# EAGLE library part MCN_V2_FOOTPRINT (library Buckeye Current)
Magic CAN Node v2 footprint This is the footprint you should use for board-to-board interfacing of a Magic CAN Node v2.2+. You will need the following connectors: Connector MCN part Mating part CAN connector Harwin M22-714032 (female) Harwin M22-2020305 (male) Sensor connector 2x Harwin M22-7131042 (female) 2x Harwin M22-2511005 (male) Backpack headers 2x Sullins LPPB101NFFN-RC (female) 2x Sullins GRPB101VWVN-RC (male) The minimum board-to-board clearance is 5.9 mm. You can use a 6mm standoff and it will work OK. -abk, Jan. 2016
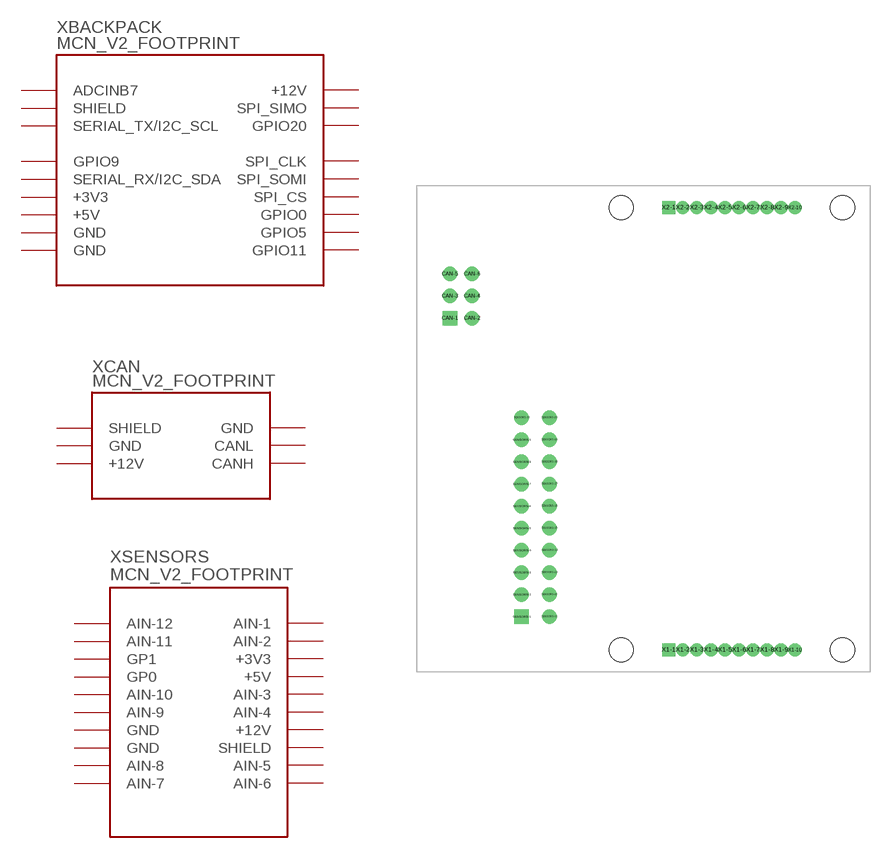
[diagram p1: symbol with the pads of MCN_V2_FOOTPRINT; footprint MCN_V2_FOOTPRINT]

Designator prefix X; gates BACKPACK=MCN_V2_BACKPACK CAN=MCN_V2_CAN SENSORS=MCN_V2_SENSORS

## MCN_V2_FOOTPRINT  [MCN_V2_FOOTPRINT]
CAN-1  CAN:SHIELD
CAN-2  CAN:GND
CAN-3  CAN:GND
CAN-4  CAN:CANL
CAN-5  CAN:+12V
CAN-6  CAN:CANH
SENSORS-1  SENSORS:AIN-7
SENSORS-2  SENSORS:AIN-8
SENSORS-3  SENSORS:GND
SENSORS-4  SENSORS:GND
SENSORS-5  SENSORS:AIN-9
SENSORS-6  SENSORS:AIN-10
SENSORS-7  SENSORS:GP0
SENSORS-8  SENSORS:GP1
SENSORS-9  SENSORS:AIN-11
SENSORS-10  SENSORS:AIN-12
SENSORS-11  SENSORS:AIN-5
SENSORS-12  SENSORS:AIN-6
SENSORS-13  SENSORS:SHIELD
SENSORS-14  SENSORS:+12V
SENSORS-15  SENSORS:AIN-4
SENSORS-16  SENSORS:AIN-3
SENSORS-17  SENSORS:+5V
SENSORS-18  SENSORS:+3V3
SENSORS-19  SENSORS:AIN-2
SENSORS-20  SENSORS:AIN-1
X1-1  BACKPACK:ADCINB7
X1-2  BACKPACK:SHIELD
X1-3  BACKPACK:SERIAL_TX/I2C_SCL
X1-5  BACKPACK:GPIO9
X1-6  BACKPACK:SERIAL_RX/I2C_SDA
X1-7  BACKPACK:+3V3
X1-8  BACKPACK:+5V
X1-9  BACKPACK:GND
X1-10  BACKPACK:GND
X2-1  BACKPACK:+12V
X2-2  BACKPACK:SPI_SIMO
X2-3  BACKPACK:GPIO20
X2-5  BACKPACK:SPI_CLK
X2-6  BACKPACK:SPI_SOMI
X2-7  BACKPACK:SPI_CS
X2-8  BACKPACK:GPIO0
X2-9  BACKPACK:GPIO5
X2-10  BACKPACK:GPIO11

## Footprint MCN_V2_FOOTPRINT (pad centres in mm)
Magic CAN Node v2 footprint This is the footprint you should use for board-to-board interfacing of a Magic CAN Node v2.2+. You will need the following connectors: Connector MCN part Mating part CAN connector Harwin M22-714032 (female) Harwin M22-2020305 (male) Sensor connector 2x Harwin M22-7131042 (female) 2x Harwin M22-2511005 (male) Backpack headers 2x Sullins LPPB101NFFN-RC (female) 2x Sullins GRPB101VWVN-RC (male) The minimum board-to-board clearance is 5.9 mm. You can use a 6mm standoff and it will work OK. -abk, Jan. 2016
drill 0.8 square: CAN-1 3,32; SENSORS-1 9.5,5
drill 0.8 round: CAN-2 5,32; CAN-3 3,34; CAN-4 5,34; CAN-5 3,36; CAN-6 5,36; SENSORS-2 9.5,7; SENSORS-3 9.5,9; SENSORS-4 9.5,11; SENSORS-5 9.5,13; SENSORS-6 9.5,15; SENSORS-7 9.5,17; SENSORS-8 9.5,19; SENSORS-9 9.5,21; SENSORS-10 9.5,23; SENSORS-11 12,5; SENSORS-12 12,7; SENSORS-13 12,9; SENSORS-14 12,11; SENSORS-15 12,13; SENSORS-16 12,15; SENSORS-17 12,17; SENSORS-18 12,19; SENSORS-19 12,21; SENSORS-20 12,23
drill 0.7 pad 1.1 square: X1-1 22.785,2; X2-1 22.785,42
drill 0.7 pad 1.1 round: X1-2 24.055,2; X1-3 25.325,2; X1-4 26.595,2; X1-5 27.865,2; X1-6 29.135,2; X1-7 30.405,2; X1-8 31.675,2; X1-9 32.945,2; X1-10 34.215,2; X2-2 24.055,42; X2-3 25.325,42; X2-4 26.595,42; X2-5 27.865,42; X2-6 29.135,42; X2-7 30.405,42; X2-8 31.675,42; X2-9 32.945,42; X2-10 34.215,42
hole 2.2 at 18.5,2
hole 2.2 at 18.5,42
hole 2.2 at 38.5,42
hole 2.2 at 38.5,2